# EAGLE library part SP400 (library EW_00_Ken)
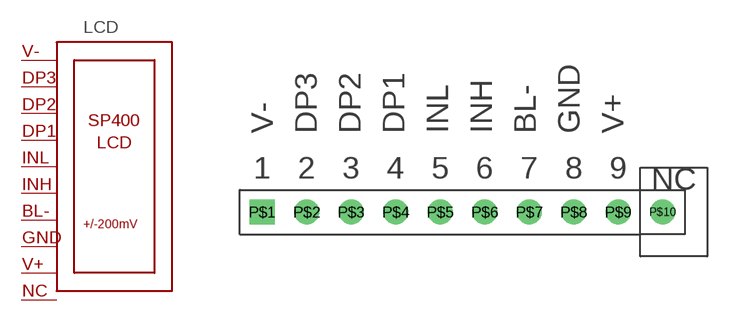
[diagram p18: symbol with the pads of SP400; footprint SP400]

Designator prefix LCD

## SP400  [SP400]
P$1  P$1
P$2  P$2
P$3  P$3
P$4  P$4
P$5  P$5
P$6  P$6
P$7  P$7
P$8  P$8
P$9  P$9
P$10  P$10

## Footprint SP400 (pad centres in mm)
drill 0.8 pad 1.422 square: P$1 0,0
drill 0.8 pad 1.422: P$2 2.54,0; P$3 5.08,0; P$4 7.62,0; P$5 10.16,0; P$6 12.7,0; P$7 15.24,0; P$8 17.78,0; P$9 20.32,0; P$10 22.86,0